# EAGLE library part AD5293 (library analog-devices)
DIGI POT 1024 TP
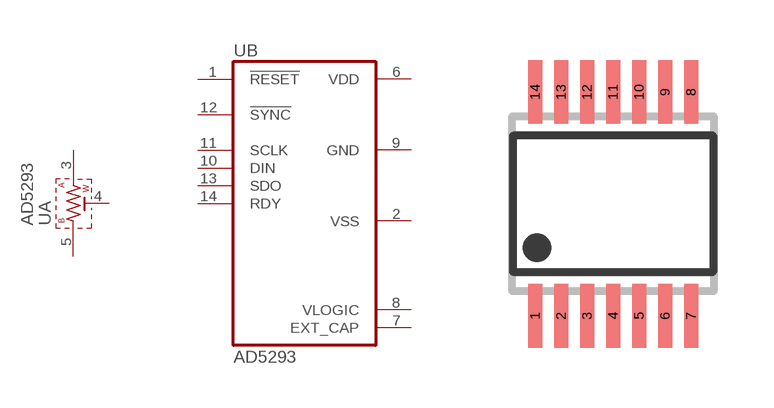
[diagram p93: symbol with the pads of TSSOP14; footprint TSSOP14]

Designator prefix U; gates A=DIGI-POT B=AD5293

## AD5293  [TSSOP14]
1  B:!RESET!
2  B:VSS  pwr
3  A:A  pas
4  A:W  pas
5  A:B  pas
6  B:VDD  pwr
7  B:EXT_CAP  oc
8  B:VLOGIC  in
9  B:GND  pwr
10  B:DIN  in
11  B:SCLK  in
12  B:!SYNC!  in
13  B:SDO  oc
14  B:RDY  oc

## Footprint TSSOP14 (pad centres in mm)
Thin Shrink Small Outline Plastic 14
smd 0.35 x 1.6: 1 -1.95,-2.8; 2 -1.3,-2.8; 3 -0.65,-2.8; 4 0,-2.8; 5 0.65,-2.8; 6 1.3,-2.8; 7 1.95,-2.8; 8 1.95,2.8; 9 1.3,2.8; 10 0.65,2.8; 11 0,2.8; 12 -0.65,2.8; 13 -1.3,2.8; 14 -1.95,2.8